# Altium schematic symbol library SCH - MCU - STM32 - ST MICROELECTRONICS STM32F318K8UX UFQFPN32.SchLib: 1 symbol
Pins are listed as number, name and electrical type; pins without a type are passive.

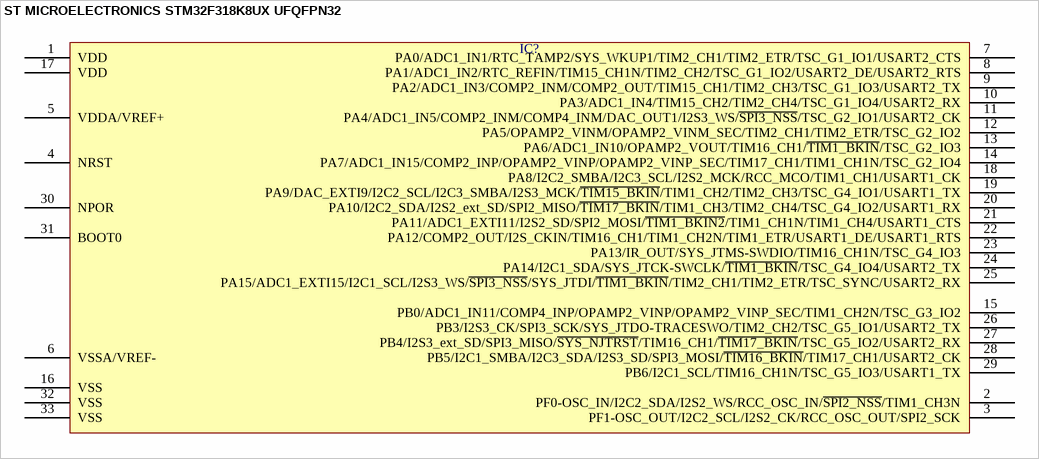
[diagram p0: symbol ST MICROELECTRONICS STM32F318K8UX UFQFPN32]

## ST MICROELECTRONICS STM32F318K8UX UFQFPN32
designator IC?  (value not drawn)
pins: 1 VDD, 2 PF0-OSC_IN/I2C2_SDA/I2S2_WS/RCC_OSC_IN/~{SPI2_NSS}/TIM1_CH3N, 3 PF1-OSC_OUT/I2C2_SCL/I2S2_CK/RCC_OSC_OUT/SPI2_SCK, 4 NRST, 5 VDDA/VREF+, 6 VSSA/VREF-, 7 PA0/ADC1_IN1/RTC_TAMP2/SYS_WKUP1/TIM2_CH1/TIM2_ETR/TSC_G1_IO1/USART2_CTS, 8 PA1/ADC1_IN2/RTC_REFIN/TIM15_CH1N/TIM2_CH2/TSC_G1_IO2/USART2_DE/USART2_RTS, 9 PA2/ADC1_IN3/COMP2_INM/COMP2_OUT/TIM15_CH1/TIM2_CH3/TSC_G1_IO3/USART2_TX, 10 PA3/ADC1_IN4/TIM15_CH2/TIM2_CH4/TSC_G1_IO4/USART2_RX, 11 PA4/ADC1_IN5/COMP2_INM/COMP4_INM/DAC_OUT1/I2S3_WS/~{SPI3_NSS}/TSC_G2_IO1/USART2_CK, 12 PA5/OPAMP2_VINM/OPAMP2_VINM_SEC/TIM2_CH1/TIM2_ETR/TSC_G2_IO2, 13 PA6/ADC1_IN10/OPAMP2_VOUT/TIM16_CH1/~{TIM1_BKIN}/TSC_G2_IO3, 14 PA7/ADC1_IN15/COMP2_INP/OPAMP2_VINP/OPAMP2_VINP_SEC/TIM17_CH1/TIM1_CH1N/TSC_G2_IO4, 15 PB0/ADC1_IN11/COMP4_INP/OPAMP2_VINP/OPAMP2_VINP_SEC/TIM1_CH2N/TSC_G3_IO2, 16 VSS, 17 VDD, 18 PA8/I2C2_SMBA/I2C3_SCL/I2S2_MCK/RCC_MCO/TIM1_CH1/USART1_CK, 19 PA9/DAC_EXTI9/I2C2_SCL/I2C3_SMBA/I2S3_MCK/~{TIM15_BKIN}/TIM1_CH2/TIM2_CH3/TSC_G4_IO1/USART1_TX, 20 PA10/I2C2_SDA/I2S2_ext_SD/SPI2_MISO/~{TIM17_BKIN}/TIM1_CH3/TIM2_CH4/TSC_G4_IO2/USART1_RX, 21 PA11/ADC1_EXTI11/I2S2_SD/SPI2_MOSI/~{TIM1_BKIN2}/TIM1_CH1N/TIM1_CH4/USART1_CTS, 22 PA12/COMP2_OUT/I2S_CKIN/TIM16_CH1/TIM1_CH2N/TIM1_ETR/USART1_DE/USART1_RTS, 23 PA13/IR_OUT/SYS_JTMS-SWDIO/TIM16_CH1N/TSC_G4_IO3, 24 PA14/I2C1_SDA/SYS_JTCK-SWCLK/~{TIM1_BKIN}/TSC_G4_IO4/USART2_TX, 25 PA15/ADC1_EXTI15/I2C1_SCL/I2S3_WS/~{SPI3_NSS}/SYS_JTDI/~{TIM1_BKIN}/TIM2_CH1/TIM2_ETR/TSC_SYNC/USART2_RX, 26 PB3/I2S3_CK/SPI3_SCK/SYS_JTDO-TRACESWO/TIM2_CH2/TSC_G5_IO1/USART2_TX, 27 PB4/I2S3_ext_SD/SPI3_MISO/~{SYS_NJTRST}/TIM16_CH1/~{TIM17_BKIN}/TSC_G5_IO2/USART2_RX, 28 PB5/I2C1_SMBA/I2C3_SDA/I2S3_SD/SPI3_MOSI/~{TIM16_BKIN}/TIM17_CH1/USART2_CK, 29 PB6/I2C1_SCL/TIM16_CH1N/TSC_G5_IO3/USART1_TX, 30 NPOR, 31 BOOT0, 32 VSS, 33 VSS